# EAGLE library part LYT4211-4217/4311-4317 (library power_integrations)
A LYTSwitch device monolithically combines a controller and high-voltage power FET into one package. The controller provides both high power factor and constant current output in a single-stage. The LYTSwitch controller consists of an oscillator, feedback (sense and logic) circuit, 5.9 V regulator, hysteretic over-temperature protection, frequency jittering, cycle-by-cycle current limit, auto-restart, inductance correction, power factor and constant current control.
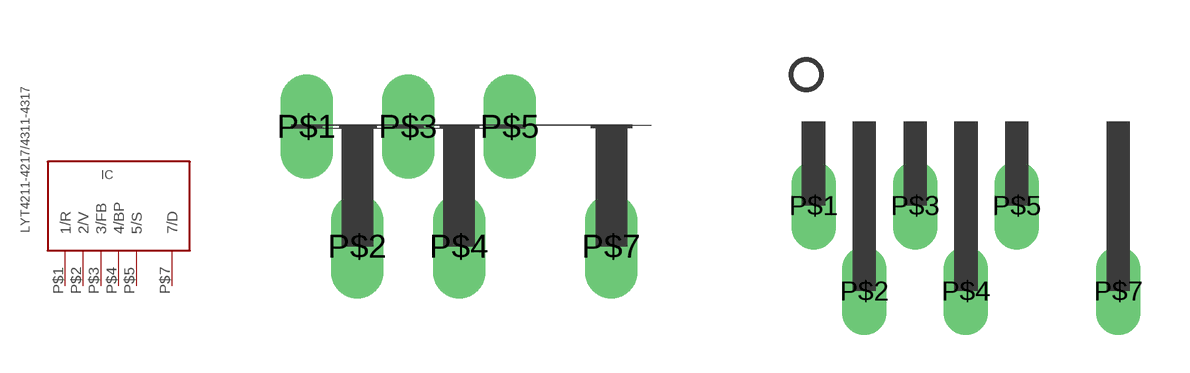
[diagram p0: symbol with the pads of SIP-E-7C(E_PACKAGE); footprints SIP-E-7C(E_PACKAGE), SIP-E-7F(L_PACKAGE)]

Designator prefix IC

## LYT4211-4217/4311-4317  [SIP-E-7C(E_PACKAGE)]
P$1  1/R
P$2  2/V
P$3  3/FB
P$4  4/BP
P$5  5/S
P$7  7/D

## LYT4211-4217/4311-4317SIP-E-7F(L_PACKAGE)  [SIP-E-7F(L_PACKAGE)]
Pads as for SIP-E-7C(E_PACKAGE)

## Footprint SIP-E-7C(E_PACKAGE) (pad centres in mm)
drill 0.8 long: P$1 -3.81,1.5; P$2 -2.54,-1.5; P$3 -1.27,1.5; P$4 0,-1.5; P$5 1.27,1.5; P$7 3.81,-1.5

## Footprint SIP-E-7F(L_PACKAGE) (pad centres in mm)
drill 0.6 long: P$1 -3.81,-2.1; P$2 -2.54,-4.24; P$3 -1.27,-2.1; P$4 0,-4.24; P$5 1.27,-2.1; P$7 3.81,-4.24